# Altium footprint library SMD Inductor.PcbLib: 13 footprints
Each footprint in its own frame and in the unit in brackets; x right, y up, seen from the top. Pads: shape width x height; smd on the part's side, far side on the other; paste and mask are expansions set on the pad; w line width, h text height; cw(c..) or ccw(c..) is an arc to the next point about the centre after c.
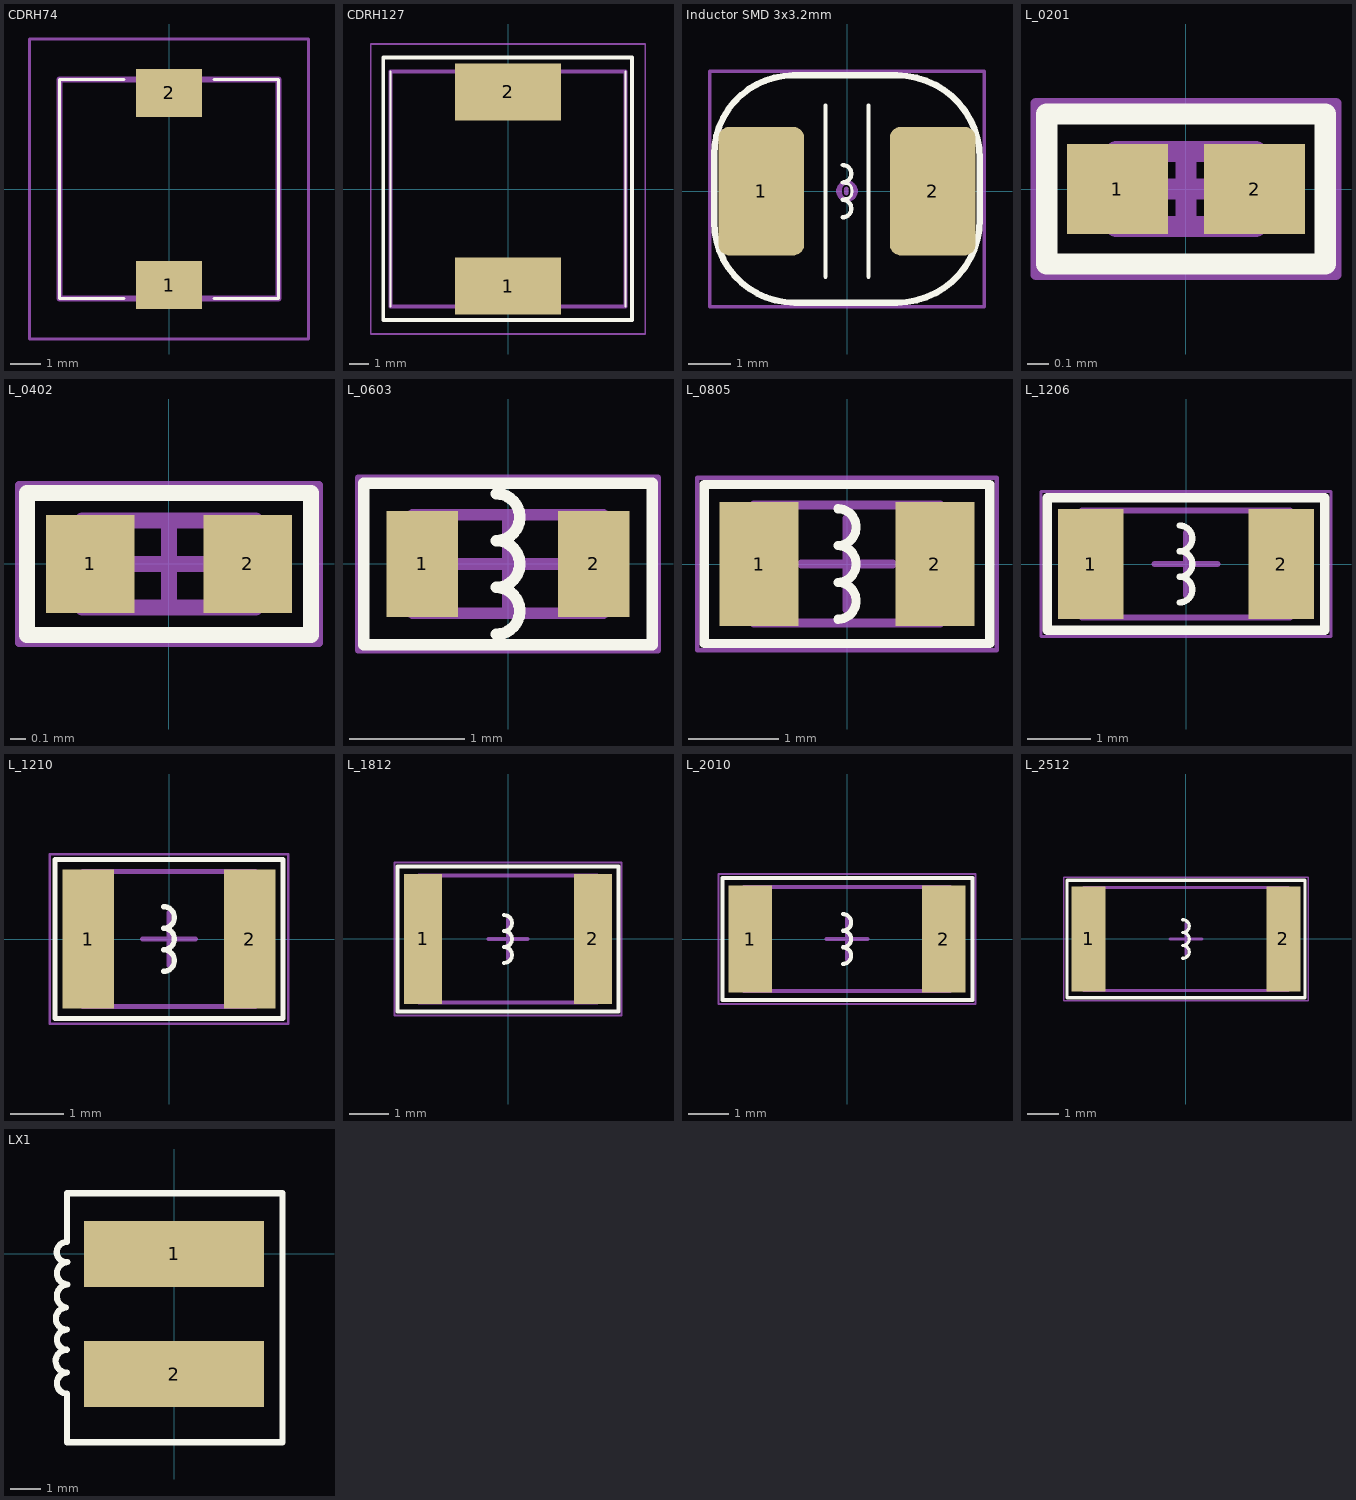
[diagram p0: the footprints below, top view; thin cyan lines are the x and y axes]

## CDRH74 [mm]
pads (2):
  rect 2.2x1.6 smd: 1(0,-3.2) 2(0,3.2)
Top Overlay:
  lines w0.1: -1.5,-3.65 -3.65,-3.65 -3.65,3.65 -1.5,3.65 ; 1.5,-3.65 3.65,-3.65 3.65,3.65 1.5,3.65
Mechanical 13:
  lines w0.2: -3.65,-3.65 3.65,-3.65 3.65,3.65 -3.65,3.65 -3.65,-3.65
Mechanical 15:
  lines w0.1: -4.65,-5 4.65,-5 4.65,5 -4.65,5 -4.65,-5
3D body "User Library-CDRH74.step": height -0.43, standoff -4.6, extent -3.7,-3.7 3.7,3.7

## CDRH127 [mm]
pads (2):
  rect 5.4x2.9 smd: 1(0,-4.95) 2(0,4.95)
Top Overlay:
  lines w0.1: -6,-6 -6,6 ; 6,-6 6,6
  lines w0.2: -6.363,-6.684 -6.363,6.698 6.325,6.698 6.325,-6.684 -6.363,-6.684
Mechanical 13:
  lines w0.2: -6,-6 -6,6 6,6 6,-6 -6,-6
Mechanical 15:
  lines w0.1: -7,-7.4 -7,7.4 7,7.4 7,-7.4 -7,-7.4
3D body "SUMIDA-CDRH127.STEP": height 7.5, standoff 0.05, extent -6,-6.171 6,6.171

## Inductor SMD 3x3.2mm [mm] "Inductor 4.7µH SMD 3x3.2mm"
pads (3):
  round 0.508 on Mech15: 0(0,0)
  rrect25% 2x3 smd: 1(-2,0) 2(2,0)
Top Overlay:
  lines w0.1: -0.5,-2 -0.5,2 ; -0.102,-0.61 ccw(c-0.102,-0.406) -0.102,-0.203 ccw(c-0.102,0) -0.102,0.203 ccw(c-0.102,0.406) -0.102,0.61 ; 0.5,-2 0.5,2
  lines w0.15: -3.1,-0.725 ccw(c-1.225,-0.725) -1.225,-2.6 1.165,-2.6 ccw(c1.165,-0.665) 3.1,-0.665 3.1,0.765 ccw(c1.165,0.765) 1.165,2.7 -1.252,2.7 ccw(c-1.252,0.852) -3.1,0.852 -3.1,-0.725
Mechanical 15:
  lines w0.076: -3.2,-2.7 -3.2,2.8 3.2,2.8 3.2,-2.7 -3.2,-2.7
3D body "smd self 4.7uH.stp": height 4.5, standoff 0, extent -2.899,-2.6 2.889,2.6

## L_0201 [mm] "Chip Inductor, 2-Leads, Body 0/60x0/30mm, IPC Medium Density DESIGNER:ABBAS BASEREH"
height 0.23
pads (2):
  rect 0.47x0.42 smd mask+0.04: 1(-0.32,0) 2(0.32,0)
Top Overlay:
  lines w0.1: -0.356,0.35 0.65,0.35 0.65,-0.35 0.325,-0.35 ; -0.325,0.35 -0.65,0.35 -0.65,-0.35 0.356,-0.35
Mechanical 13:
  lines w0.1: -0.325,-0.175 -0.325,0.175 0.325,0.175 0.325,-0.175 -0.325,-0.175
Mechanical 15:
  lines w0.05: -0.7,-0.4 -0.7,0.4 0.7,0.4 0.7,-0.4 -0.7,-0.4
  lines w0.1: -0.175,0 0.175,0 ; 0,-0.175 0,0.175
3D body "IND0201.step": height 0.23, standoff 0, extent -0.325,-0.175 0.325,0.175

## L_0402 [mm] "Chip Inductor, 2-Leads, Body 1/00x0/50mm, IPC Medium Density DESIGNER:ABBAS BASEREH"
height 0.32
pads (2):
  rect 0.56x0.62 smd mask+0.06: 1(-0.5,0) 2(0.5,0)
Top Overlay:
  lines w0.1: -0.483,0.45 0.9,0.45 0.9,-0.45 0.45,-0.45 ; -0.45,0.45 -0.9,0.45 -0.9,-0.45 0.457,-0.45
Mechanical 13:
  lines w0.1: -0.55,-0.275 -0.55,0.275 0.55,0.275 0.55,-0.275 -0.55,-0.275
Mechanical 15:
  lines w0.05: -0.95,-0.5 -0.95,0.5 0.95,0.5 0.95,-0.5 -0.95,-0.5
  lines w0.1: -0.275,0 0.275,0 ; 0,-0.275 0,0.275
3D body "IND0402.step": height 0.32, standoff 0, extent -0.55,-0.275 0.55,0.275

## L_0603 [mm] "Chip Inductor, 2-Leads, Body 1/60x0/80mm, IPC Medium Density DESIGNER:ABBAS BASEREH"
height 0.4
pads (2):
  rect 0.62x0.92 smd: 1(-0.745,0) 2(0.745,0)
Top Overlay:
  lines w0.1: -0.102,-0.61 ccw(c-0.102,-0.406) -0.102,-0.203 ccw(c-0.102,0) -0.102,0.203 ccw(c-0.102,0.406) -0.102,0.61 ; -1.25,-0.7 -0.666,-0.7 0.625,-0.7 1.25,-0.7 1.25,0.7 0.625,0.7 -0.625,0.7 -1.25,0.7 -1.25,-0.7
Mechanical 13:
  lines w0.1: -0.825,-0.425 0.825,-0.425 0.825,0.425 -0.825,0.425 -0.825,-0.425
Mechanical 15:
  lines w0.05: -1.3,-0.75 1.3,-0.75 1.3,0.75 -1.3,0.75 -1.3,-0.75
  lines w0.1: -0.425,0 0.425,0 ; 0,-0.425 0,0.425
3D body "IND0603.step": height 0.4, standoff 0, extent -0.825,-0.425 0.825,0.425

## L_0805 [mm] "Chip Inductor, 2-Leads, Body 2/00x1/25mm, IPC Medium Density DESIGNER:ABBAS BASEREH"
height 0.5
pads (2):
  rect 0.87x1.37 smd: 1(-0.97,0) 2(0.97,0)
Top Overlay:
  lines w0.1: -0.102,-0.61 ccw(c-0.102,-0.406) -0.102,-0.203 ccw(c-0.102,0) -0.102,0.203 ccw(c-0.102,0.406) -0.102,0.61 ; -1.575,-0.875 -0.788,-0.875 0.788,-0.875 1.575,-0.875 1.575,0.875 0.788,0.875 -0.788,0.875 -1.575,0.875 -1.575,-0.875
Mechanical 13:
  lines w0.1: -1.025,-0.65 1.025,-0.65 1.025,0.65 -1.025,0.65 -1.025,-0.65
Mechanical 15:
  lines w0.05: -1.65,-0.95 1.65,-0.95 1.65,0.95 -1.65,0.95 -1.65,-0.95
  lines w0.1: -0.5,0 0.5,0 ; 0,-0.5 0,0.5
3D body "Inductor_0805.step": height 0.96, standoff 0.01, extent -1,-0.6 1,0.6

## L_1206 [mm] "Chip Inductor, 2-Leads, Body 3/20x1/60mm, IPC Medium Density DESIGNER:ABBAS BASEREH"
height 0.94
pads (2):
  rect 1.04x1.74 smd: 1(-1.51,0) 2(1.51,0)
Top Overlay:
  lines w0.1: -0.102,-0.61 ccw(c-0.102,-0.406) -0.102,-0.203 ccw(c-0.102,0) -0.102,0.203 ccw(c-0.102,0.406) -0.102,0.61
  lines w0.15: -2.2,-1.05 -2.2,1.05 -1.1,1.05 2.2,1.05 2.2,-1.05 1.1,-1.05 -2.2,-1.05
Mechanical 13:
  lines w0.1: -1.65,-0.85 1.65,-0.85 1.65,0.85 -1.65,0.85 -1.65,-0.85
Mechanical 15:
  lines w0.05: -2.3,-1.15 2.3,-1.15 2.3,1.15 -2.3,1.15 -2.3,-1.15
  lines w0.1: -0.5,0 0.5,0 ; 0,-0.5 0,0.5
3D body "IND1206.step": height 0.94, standoff 0, extent -1.65,-0.85 1.65,0.85

## L_1210 [mm] "Chip Inductor, 2-Leads, Body 3/20x2/50mm, IPC Medium Density DESIGNER:ABBAS BASEREH"
height 0.55
pads (2):
  rect 0.97x2.62 smd: 1(-1.52,0) 2(1.52,0)
Top Overlay:
  lines w0.1: -0.102,-0.61 ccw(c-0.102,-0.406) -0.102,-0.203 ccw(c-0.102,0) -0.102,0.203 ccw(c-0.102,0.406) -0.102,0.61 ; -2.15,-1.5 -1.075,-1.5 2.15,-1.5 2.15,1.5 1.075,1.5 -2.15,1.5 -2.15,-1.5
Mechanical 13:
  lines w0.1: -1.625,-1.275 1.625,-1.275 1.625,1.275 -1.625,1.275 -1.625,-1.275
Mechanical 15:
  lines w0.05: -2.25,-1.6 2.25,-1.6 2.25,1.6 -2.25,1.6 -2.25,-1.6
  lines w0.1: -0.5,0 0.5,0 ; 0,-0.5 0,0.5
3D body "IND1210.step": height 0.55, standoff 0, extent -1.625,-1.275 1.625,1.275

## L_1812 [mm] "Chip Inductor, 2-Leads, Body 4/50x3/20mm, IPC Medium Density DESIGNER:ABBAS BASEREH"
height 0.55
pads (2):
  rect 0.97x3.32 smd: 1(-2.17,0) 2(2.17,0)
Top Overlay:
  lines w0.1: -0.102,-0.61 ccw(c-0.102,-0.406) -0.102,-0.203 ccw(c-0.102,0) -0.102,0.203 ccw(c-0.102,0.406) -0.102,0.61 ; -2.825,-1.85 -1.413,-1.85 2.825,-1.85 2.825,1.85 1.413,1.85 -2.825,1.85 -2.825,-1.85
Mechanical 13:
  lines w0.1: -2.275,-1.625 2.275,-1.625 2.275,1.625 -2.275,1.625 -2.275,-1.625
Mechanical 15:
  lines w0.05: -2.9,-1.95 2.9,-1.95 2.9,1.95 -2.9,1.95 -2.9,-1.95
  lines w0.1: -0.5,0 0.5,0 ; 0,-0.5 0,0.5
3D body "IND1812.step": height 0.55, standoff 0, extent -2.275,-1.625 2.275,1.625

## L_2010 [mm] "Chip Inductor, 2-Leads, Body 5/00x2/50mm, IPC Medium Density DESIGNER:ABBAS BASEREH"
height 0.55
pads (2):
  rect 1.07x2.62 smd: 1(-2.37,0) 2(2.37,0)
Top Overlay:
  lines w0.1: -0.102,-0.61 ccw(c-0.102,-0.406) -0.102,-0.203 ccw(c-0.102,0) -0.102,0.203 ccw(c-0.102,0.406) -0.102,0.61 ; -3.05,-1.5 -1.519,-1.5 3.075,-1.5 3.075,1.5 1.544,1.5 -3.05,1.5 -3.05,-1.5
Mechanical 13:
  lines w0.1: -2.525,-1.275 2.525,-1.275 2.525,1.275 -2.525,1.275 -2.525,-1.275
Mechanical 15:
  lines w0.05: -3.15,-1.6 3.15,-1.6 3.15,1.6 -3.15,1.6 -3.15,-1.6
  lines w0.1: -0.5,0 0.5,0 ; 0,-0.5 0,0.5
3D body "IND2010.step": height 0.55, standoff 0, extent -2.525,-1.275 2.525,1.275

## L_2512 [mm] "Chip Inductor, 2-Leads, Body 6/40x3/20mm, IPC Medium Density DESIGNER:ABBAS BASEREH"
height 0.7
pads (2):
  rect 1.07x3.32 smd: 1(-3.07,0) 2(3.07,0)
Top Overlay:
  lines w0.1: -0.102,-0.61 ccw(c-0.102,-0.406) -0.102,-0.203 ccw(c-0.102,0) -0.102,0.203 ccw(c-0.102,0.406) -0.102,0.61 ; -3.75,-1.85 -1.875,-1.85 3.75,-1.85 3.75,1.85 1.875,1.85 -3.75,1.85 -3.75,-1.85
Mechanical 13:
  lines w0.1: -3.225,-1.625 3.225,-1.625 3.225,1.625 -3.225,1.625 -3.225,-1.625
Mechanical 15:
  lines w0.05: -3.85,-1.95 3.85,-1.95 3.85,1.95 -3.85,1.95 -3.85,-1.95
  lines w0.1: -0.5,0 0.5,0 ; 0,-0.5 0,0.5
3D body "IND2512.step": height 0.7, standoff 0, extent -3.225,-1.625 3.225,1.625

## LX1 [mil]
height 157.48
pads (2):
  rect 234x86 smd: 1(0,0) 2(0,-156.7)
Top Overlay:
  lines w8: -141.1,-70 cw(c-137.32,-55.04) -138.9,-39.7 cw(c-138.11,-25.26) -138.6,-10.8 cw(c-139.74,2.28) -139.3,15.4 -139.3,78.9 141,78.9 141,-245.4 -139.3,-245.4 -139.3,-182.3 cw(c-138.85,-168.45) -139.4,-154.6 cw(c-139.4,-139.75) -139.7,-124.9 cw(c-139.44,-111.8) -139.3,-98.7 cw(c-139.59,-84.31) -141.1,-70
3D body: height 157.48, standoff 3.94, extent -118.42,-200.73 117.34,43.16